# EAGLE library part SW-3PDT (library ryans-common-components)
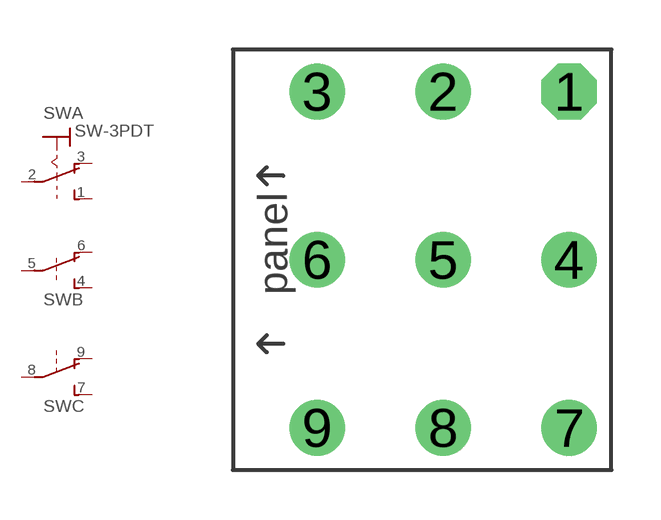
[diagram p9: symbol with the pads of 3PDT-FOOTPRINT; footprint 3PDT-FOOTPRINT]

Designator prefix SW; gates A=SW-SPDT-FIRST B=SW-SPDT-MIDDLE C=SW-SPDT-LAST

## SW-3PDT-WIRED-PANEL-MNT  [3PDT-FOOTPRINT]
1  A:S  pas
2  A:P  pas
3  A:O  pas
4  B:S  pas
5  B:P  pas
6  B:O  pas
7  C:S  pas
8  C:P  pas
9  C:O  pas

## Footprint 3PDT-FOOTPRINT (pad centres in mm)
drill 0.914 pad 1.676 octagon: 1 3.81,5.08
drill 0.914 pad 1.676: 2 0,5.08; 3 -3.81,5.08; 4 3.81,0; 5 0,0; 6 -3.81,0; 7 3.81,-5.08; 8 0,-5.08; 9 -3.81,-5.08